# EAGLE library part BQ76PL536A (library RalimTek)
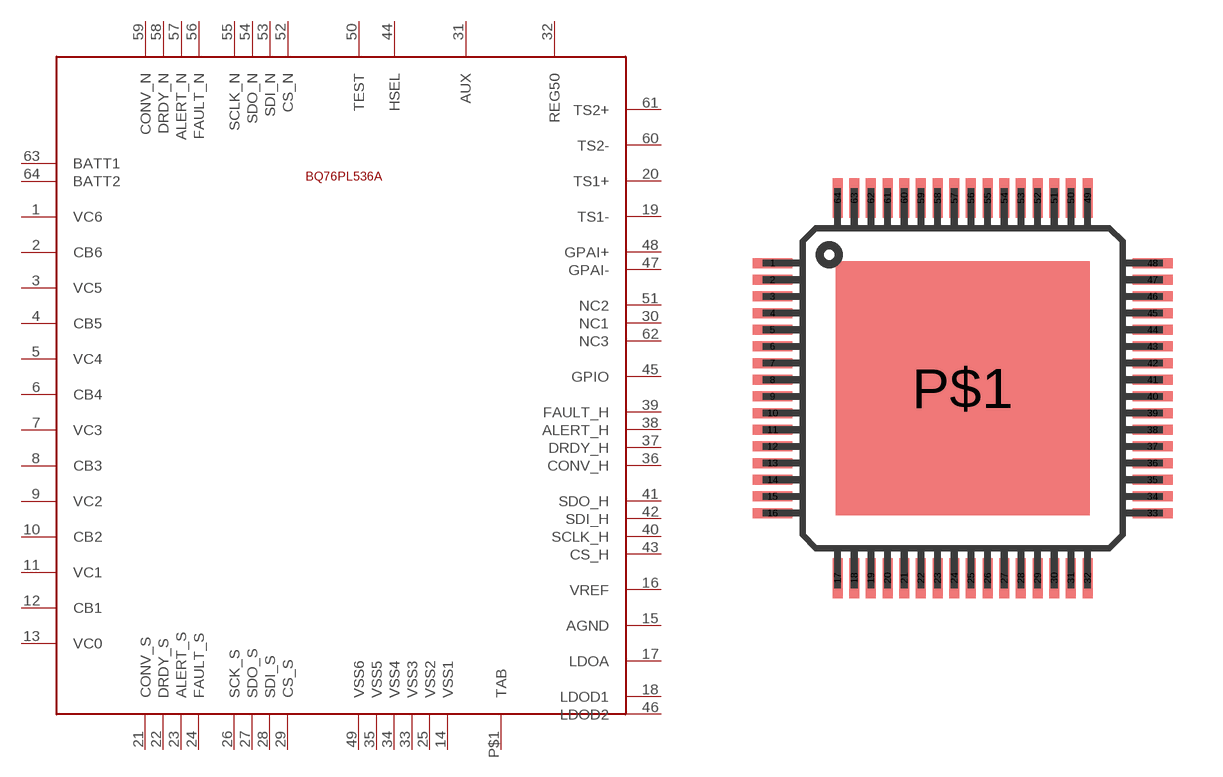
[diagram p24: symbol with the pads of S-PQFP64-G64; footprint S-PQFP64-G64]

Designator prefix IC

## BQ76PL536A  [S-PQFP64-G64]
1  VC6
2  CB6
3  VC5
4  CB5
5  VC4
6  CB4
7  VC3
8  CB3
9  VC2
10  CB2
11  VC1
12  CB1
13  VC0
14  VSS1
15  AGND
16  VREF
17  LDOA
18  LDOD1
19  TS1-
20  TS1+
21  CONV_S
22  DRDY_S
23  ALERT_S
24  FAULT_S
25  VSS2
26  SCK_S
27  SDO_S
28  SDI_S
29  CS_S
30  NC1
31  AUX
32  REG50
33  VSS3
34  VSS4
35  VSS5
36  CONV_H
37  DRDY_H
38  ALERT_H
39  FAULT_H
40  SCLK_H
41  SDO_H
42  SDI_H
43  CS_H
44  HSEL
45  GPIO
46  LDOD2
47  GPAI-
48  GPAI+
49  VSS6
50  TEST
51  NC2
52  CS_N
53  SDI_N
54  SDO_N
55  SCLK_N
56  FAULT_N
57  ALERT_N
58  DRDY_N
59  CONV_N
60  TS2-
61  TS2+
62  NC3
63  BATT1
64  BATT2
P$1  TAB

## Footprint S-PQFP64-G64 (pad centres in mm)
smd 1.2 x 0.3: 1 -5.7,3.75; 2 -5.7,3.25; 3 -5.7,2.75; 4 -5.7,2.25; 5 -5.7,1.75; 6 -5.7,1.25; 7 -5.7,0.75; 8 -5.7,0.25; 9 -5.7,-0.25; 10 -5.7,-0.75; 11 -5.7,-1.25; 12 -5.7,-1.75; 13 -5.7,-2.25; 14 -5.7,-2.75; 15 -5.7,-3.25; 16 -5.7,-3.75; 33 5.7,-3.75; 34 5.7,-3.25; 35 5.7,-2.75; 36 5.7,-2.25; 37 5.7,-1.75; 38 5.7,-1.25; 39 5.7,-0.75; 40 5.7,-0.25; 41 5.7,0.25; 42 5.7,0.75; 43 5.7,1.25; 44 5.7,1.75; 45 5.7,2.25; 46 5.7,2.75; 47 5.7,3.25; 48 5.7,3.75
smd 0.3 x 1.2: 17 -3.75,-5.7; 18 -3.25,-5.7; 19 -2.75,-5.7; 20 -2.25,-5.7; 21 -1.75,-5.7; 22 -1.25,-5.7; 23 -0.75,-5.7; 24 -0.25,-5.7; 25 0.25,-5.7; 26 0.75,-5.7; 27 1.25,-5.7; 28 1.75,-5.7; 29 2.25,-5.7; 30 2.75,-5.7; 31 3.25,-5.7; 32 3.75,-5.7; 49 3.75,5.7; 50 3.25,5.7; 51 2.75,5.7; 52 2.25,5.7; 53 1.75,5.7; 54 1.25,5.7; 55 0.75,5.7; 56 0.25,5.7; 57 -0.25,5.7; 58 -0.75,5.7; 59 -1.25,5.7; 60 -1.75,5.7; 61 -2.25,5.7; 62 -2.75,5.7; 63 -3.25,5.7; 64 -3.75,5.7
smd 6.452 x 3.251: P$1 0,0